# EAGLE library part M20-7830446 (library CONN2x4-254)
M20 Socket,Dil,Vertical,2X4W,2.54Mm HARWIN 2.54mm 8 Way 2 Row Straight PCB Socket Through Hole Socket Strip Source: Datasheet <http://uk.rs-online.com/web/p/products/6816836>
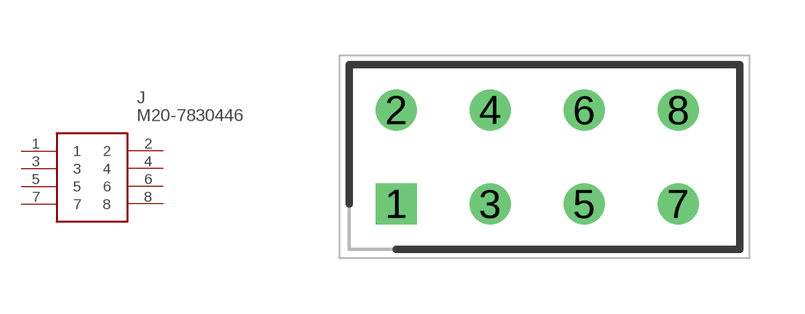
[diagram p0: symbol with the pads of SHDR8W28P254_2X4_1056X500X865P; footprint SHDR8W28P254_2X4_1056X500X865P]

Designator prefix J

## M20-7830446 (Allied_Number: R1053080; Allied_Price-Stock: https://www.alliedelec.com/harwin-m20-7830446/R1053080/; Description: M20 Socket,Dil,Vertical,2X4W,2.54Mm HARWIN 2.54mm 8 Way 2 Row Straight PCB Socket Through Hole Socket Strip; Height: 8.65mm; Manufacturer_Name: HARWIN; Manufacturer_Part_Number: M20-7830446; Mouser_Part_Number: 855-M20-7830446; Mouser_Price-Stock: https://www.mouser.com/Search/Refine.aspx?Keyword=855-M20-7830446; RS_Part_Number: 6816836P; RS_Price-Stock: http://uk.rs-online.com/web/p/products/6816836P)  [SHDR8W28P254_2X4_1056X500X865P]
1  1
2  2
3  3
4  4
5  5
6  6
7  7
8  8

## Footprint SHDR8W28P254_2X4_1056X500X865P (pad centres in mm)
M20-7830446
drill 0.6 pad 1 square: 1 0,0
drill 0.6 pad 1: 2 0,2.54; 3 2.54,0; 4 2.54,2.54; 5 5.08,0; 6 5.08,2.54; 7 7.62,0; 8 7.62,2.54